# EAGLE library part RELAY_DIODE_2XNO (library be_relay)
edited: Mario Blunk
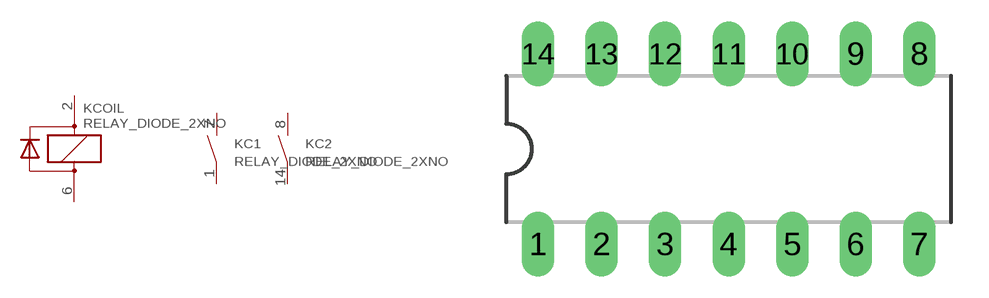
[diagram p0: symbol with the pads of T_NDIP14; footprint T_NDIP14]

Designator prefix K; gates COIL=COIL+DIODE C1=NORMALLY_OPEN C2=NORMALLY_OPEN

## RELAY_DIODE_2XNO_NDIP14 (BOM: YES; COMMISSIONED: 2015-02-03; PART_CODE_BEL: K_PAC_T_NDIP14_VAL_; UPDATED: 2016-11-17)  [T_NDIP14]
1  C1:P  pas
2  COIL:+  pas
6  COIL:-  pas
7  C1:S  pas
8  C2:S  pas
14  C2:P  pas

## Footprint T_NDIP14 (pad centres in mm)
edited; Mario Blunk date: 2015-02-03
drill 0.8 long: 1 -7.62,-3.81; 2 -5.08,-3.81; 3 -2.54,-3.81; 4 0,-3.81; 5 2.54,-3.81; 6 5.08,-3.81; 7 7.62,-3.81; 8 7.62,3.81; 9 5.08,3.81; 10 2.54,3.81; 11 0,3.81; 12 -2.54,3.81; 13 -5.08,3.81; 14 -7.62,3.81